# Altium footprint library Footprint_Though-Hole.PcbLib: 12 footprints
Each footprint in its own frame and in the unit in brackets; x right, y up, seen from the top. Pads: shape width x height; smd on the part's side, far side on the other; paste and mask are expansions set on the pad; w line width, h text height; cw(c..) or ccw(c..) is an arc to the next point about the centre after c.
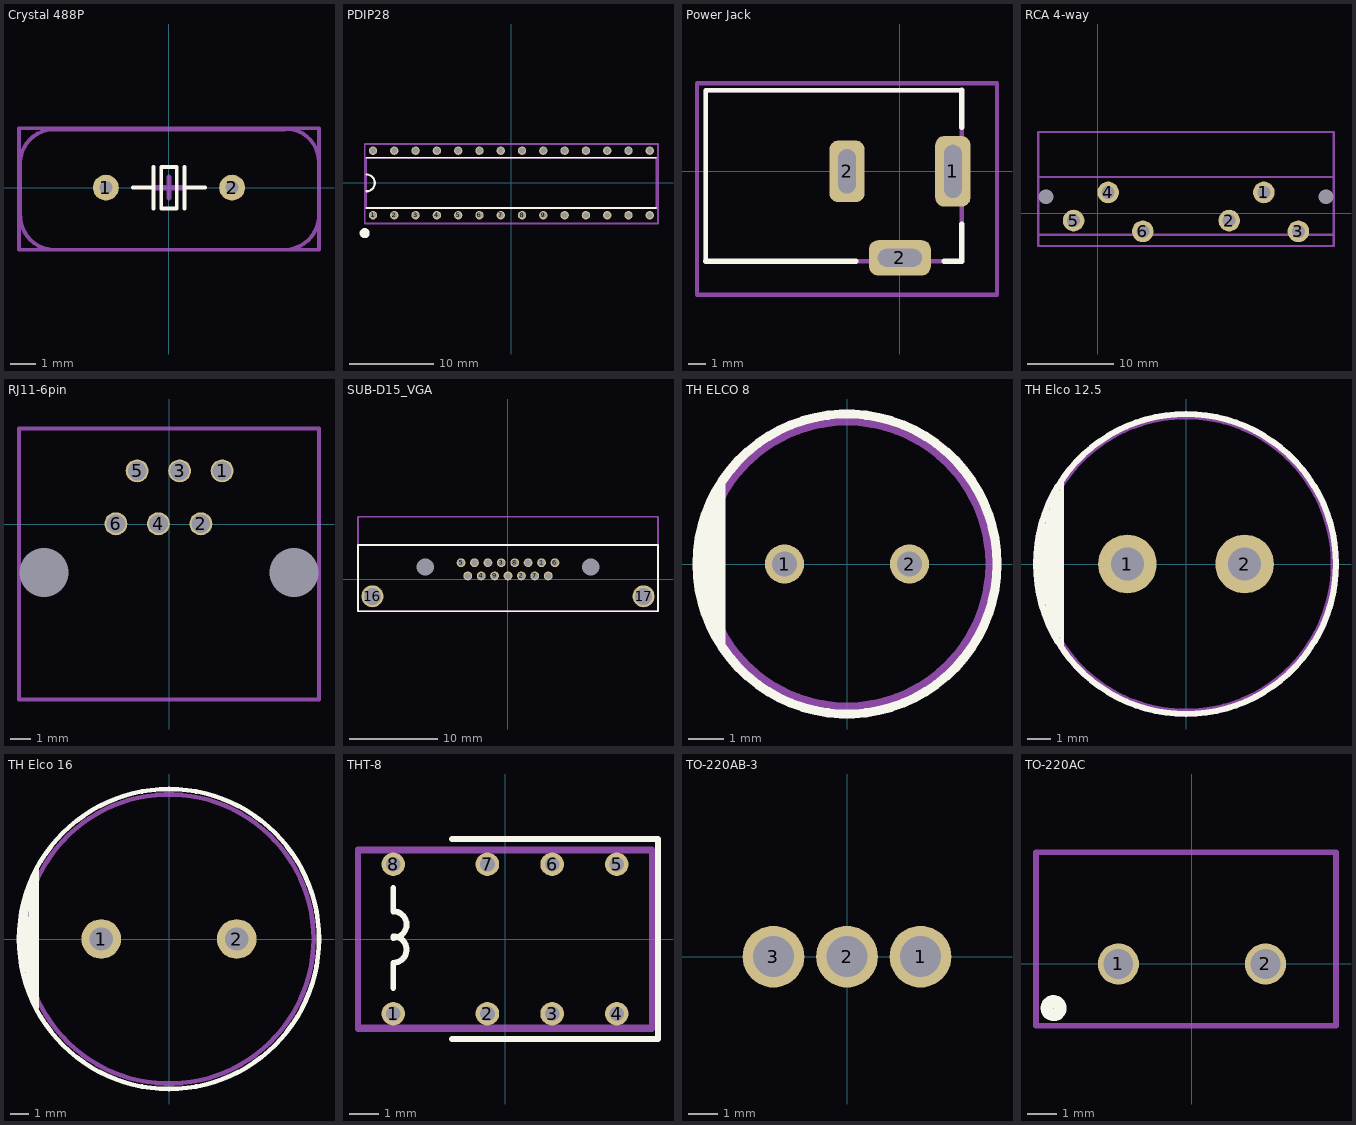
[diagram p0: the footprints below, top view; thin cyan lines are the x and y axes]

## Crystal 488P [mm] "Crystal Pitch 4.88mm - 4.65mm x 11.35mm x 3.6mm"
height 3.6
pads (2):
  round 1 hole 0.5: 1(-2.44,0) 2(2.44,0)
Top Overlay:
  lines w0.15: -1.4,0 -0.6,0 ; -0.6,-0.8 -0.6,0.8 ; 0.6,-0.8 0.6,0.8 ; 0.6,0 1.4,0 ; -0.3,-0.8 -0.3,0.8 0.3,0.8 0.3,-0.8 -0.3,-0.8
Mechanical 13:
  lines w0.15: 4.475,2.25 -4.55,2.25 ccw(c-4.45,0.95) -5.75,0.85 -5.75,-1 ccw(c-4.425,-1.075) -4.5,-2.4 4.5,-2.4 ccw(c4.45,-1.05) 5.8,-1 5.8,1 ccw(c4.513,0.988) 4.5,2.275
Mechanical 15:
  lines w0.15: -5.8,-2.4 -5.8,2.3 5.8,2.3 5.8,-2.4 -5.8,-2.4
  lines w0.2: -0.5,0 0.5,0 ; 0,-0.4 0,0.4
3D body "User Library-HC49_Crystal.step": height 3.1, standoff -13.2, extent -5.675,-2.325 5.675,2.325

## PDIP28 [mm] "Dual In-Line Plastic Package 28pin, Pitch 2.54mm"
pads (28):
  round 1 hole 0.7: 1(-16.51,-3.85) 2(-13.97,-3.85) 3(-11.43,-3.85) 4(-8.89,-3.85) 5(-6.35,-3.85) 6(-3.81,-3.85) 7(-1.27,-3.85) 8(1.27,-3.85) 9(3.81,-3.85) 10(6.35,-3.85) 11(8.89,-3.85) 12(11.43,-3.85) 13(13.97,-3.85) 14(16.51,-3.85) 15(16.51,3.85) 16(13.97,3.85) 17(11.43,3.85) 18(8.89,3.85) 19(6.35,3.85) 20(3.81,3.85) 21(1.27,3.85) 22(-1.27,3.85) 23(-3.81,3.85) 24(-6.35,3.85) 25(-8.89,3.85) 26(-11.43,3.85) 27(-13.97,3.85) 28(-16.51,3.85)
Top Overlay:
  circle w1: c-17.5,-6 r0.1
  lines w0.2: -17.3,-3 17.3,-3 ; -17.3,3 17.3,3
  lines w0.254: -17.3,-1 ccw(c-17.3,0) -17.3,1
Mechanical 13:
  lines w0.2: -17.3,-3 -17.3,3 17.3,3 17.3,-3 -17.3,-3
Mechanical 15:
  lines w0.2: -17.51,-4.85 -17.51,4.65 17.49,4.65 17.49,-4.85 -17.51,-4.85
3D body "User Library-PDIP28.step": height 4.24, standoff -2.89, extent -17.325,-4.88 17.325,4.88

## Power Jack [mm] "6mm Jack plug"
height 11
pads (3):
  rrect50% 2x4 hole 1 slot 3 at 90 deg: 1(3,0)
  rrect50% 2x3.5 hole 1 slot 2.5 at 90 deg: 2(-3,0)
  rrect50% 3.5x2 hole 1 slot 2.5 at 0 deg: 2(0,-4.9)
Top Overlay:
  lines w0.254: -11,-5.1 -11,4.6 3.5,4.6
  lines w0.3: -11,-5.1 -2.5,-5.1 ; 2.5,-5.1 3.5,-5.1 3.5,-3 ; 3.5,2.5 3.5,4.6
Mechanical 13:
  lines w0.254: -11,-5.1 3.5,-5.1 3.5,4.6 -11,4.6 -11,-5.1
Mechanical 15:
  lines w0.254: -11.5,-7 5.5,-7 5.5,5 -11.5,5 -11.5,-7
3D body "User Library-K375A -PCM DC Power Jack 2mm Pin.SLDPRT": height 11, standoff -5.1, extent -11.05,-5.15 3.45,4.65

## RCA 4-way [mm] "Vertical RCA connector with 4 connectors"
height 27.4
pads (8):
  round 2.5 hole 1.5: 1(19.2,2.4) 2(15.2,-0.85) 3(23.2,-2.1) 4(1.2,2.4) 5(-2.8,-0.85) 6(5.2,-2.1)
  rect 0x0 hole 1.7 square: ""(-6,1.9) ""(26.4,1.9)
Bottom Overlay:
  lines w0.254: -6.9,-2.5 -6.9,9.4 27.3,9.4 27.3,-2.5
  lines w0.3: -6.9,-2.5 -4.5,-2.5 ; 27.3,-2.5 25.3,-2.5 ; 25.3,-2.5 25.3,-2.5
Mechanical 13:
  lines w0.254: -6.9,-2.5 27.3,-2.5 27.3,9.4 18.4,9.4 -6.9,9.4 -6.9,-2.5
Mechanical 15:
  lines w0.254: -6.9,-3.8 27.3,-3.8 27.3,4.2 -6.9,4.2 -6.9,-3.8

## RJ11-6pin [mm] "6pin version"
pads (8):
  round 0 hole 2.36 unplated: 0(-6,-2.3) 0(6,-2.3)
  round 1.1 hole 0.9: 1(2.55,2.57) 2(1.53,0.03) 3(0.51,2.57) 4(-0.51,0.03) 5(-1.53,2.57) 6(-2.55,0.03)
Mechanical 13:
  lines w0.2: -7.2,-8.4 -7.2,4.6 7.2,4.6 7.2,-8.4 -7.2,-8.4
Mechanical 15:
  lines w0.2: -7.2,-8.4 -7.2,4.6 7.2,4.6 7.2,-8.4 -7.2,-8.4
3D body "User Library-RJ11-WE-HOR-TAB-UP.step": height 14.5, standoff -3.5, extent -7.2,-8.4 7.2,4.6

## SUB-D15_VGA [mm]
height 12.44
pads (19):
  round 0 hole 1.93: 0(-9.38,1.395) 0(9.38,1.395)
  round 1 hole 0.7: 1(3.8,1.905) 2(1.52,0.405) 3(-0.76,1.905) 4(-3.04,0.405) 5(-5.32,1.905) 6(5.32,1.905) 7(3.04,0.405) 8(0.76,1.905) 9(-1.52,0.405) 10(-3.8,1.905) 11(4.56,0.405) 12(2.28,1.905) 13(0,0.405) 14(-2.28,1.905) 15(-4.56,0.405)
  round 2.5 hole 1.93: 16(-15.365,-1.905) 17(15.365,-1.905)
Top Overlay:
  lines w0.2: -17,-3.595 17,-3.595 17,3.905 -6,3.905 -17,3.905 -17,-3.595
Mechanical 13:
  lines w0.2: -17,-3.595 17,-3.595 17,3.905 -17,3.905 -17,-3.595
Mechanical 15:
  lines w0.2: -17,-3.595 17,-3.595 17,7.105 -17,7.105 -17,-3.595

## TH ELCO 8 [mm]
pads (2):
  round 1.1 hole 0.7: 1(-1.75,0) 2(1.75,0)
Top Overlay:
  circle w0.254: c0,0 r4.2
  lines w0.2: -4.1,-1 -4.1,1 ; -4,-1.3 -4,1.3 ; -3.9,-1.6 -3.9,1.5 ; -3.7,-1.9 -3.7,1.9 ; -3.5,-2.3 -3.5,2.2
Mechanical 13:
  circle w0.254: c0,0 r4
Mechanical 15:
  circle w0.254: c0,0 r4
3D body: height 11.5, standoff 0, extent -4,-3.997 4,3.997

## TH Elco 12.5 [mm] "D=12.5mm"
pads (2):
  round 2.5 hole 1.4: 1(-2.5,0) 2(2.5,0)
Top Overlay:
  circle w0.254: c0,0 r6.4
  lines w0.2: -6.2,-1.2 -6.2,0.9 ; -6.1,-1.7 -6.1,1.7 ; -5.9,-2.4 -5.9,2.3 ; -5.7,-2.8 -5.7,2.8 ; -5.5,-3.1 -5.5,3.1 ; -5.3,-3.5 -5.3,3.5
Mechanical 13:
  circle w0.254: c0,0 r6.3
Mechanical 15:
  circle w0.254: c0,0 r6.401
3D body: height 25, standoff 0, extent -6.247,-6.25 6.247,6.25

## TH Elco 16 [mm] "D=16mm"
pads (2):
  round 2.2 hole 1.3: 1(-3.75,0) 2(3.75,0)
Top Overlay:
  circle w0.254: c0,0 r8.3
  lines w0.2: -8.15,-1.3 -8.15,0.8 ; -8.05,-1.8 -8.05,1.6 ; -7.9,2.5 -7.85,-2.5 ; -7.702,3 -7.65,-2.9 ; -7.5,-3.6 -7.5,3.5 ; -7.3,-3.8 -7.3,3.9
Mechanical 13:
  circle w0.254: c0,0 r8
Mechanical 15:
  circle w0.254: c0,0 r8
3D body: height 35.5, standoff 0, extent -7.996,-8 7.996,8

## THT-8 [mm]
pads (8):
  round 0.8 hole 0.5: 1(-3.8,-2.54) 2(-0.6,-2.54) 3(1.6,-2.54) 4(3.8,-2.54) 5(3.8,2.54) 6(1.6,2.54) 7(-0.6,2.54) 8(-3.8,2.54)
Top Overlay:
  lines w0.2: -3.8,-1.66 -3.8,-0.86 ; -3.8,-0.81 ccw(c-3.8,-0.36) -3.8,0.09 ; -3.8,0.04 ccw(c-3.8,0.49) -3.8,0.94 -3.8,1.74 ; -1.8,-3.4 5.2,-3.4 5.2,3.4 -1.8,3.4
Mechanical 13:
  lines w0.2: -5,-3 -5,3 5,3 5,-1.34 5,-3 -5,-3
Mechanical 15:
  lines w0.2: -5,-3.06 -5,3.04 5,3.04 5,-3.06 -5,-3.06
3D body: height 5.8, standoff 0.3, extent -5,-3 5,3

## TO-220AB-3 [mm] "Transistor Outline"
pads (3):
  round 2.1 hole 1.4: 1(2.5,0) 2(0,0) 3(-2.5,0)
Bottom Overlay:
  lines w0.254: -5.1,-1.5 -5.1,2.7 5.1,2.7 5.1,-1.5 -5.1,-1.5
3D body "User Library-Transistors TO-220AB.SLDPRT": height 18.87, standoff -14.02, extent -5.08,-1.495 5.08,2.7

## TO-220AC [mm]
pads (2):
  round 1.4 hole 1.01: 1(-2.5,0) 2(2.5,0)
Top Overlay:
  circle w0.254: c-4.7,-1.5 r0.316
  circle w0.254: c-4.7,-1.5 r0.141
Mechanical 13:
  lines w0.2: -5.3,-2.1 -5.3,3.8 4.9,3.8 4.9,-2.1 -5.3,-2.1
Mechanical 15:
  lines w0.2: -5.3,-2.1 4.9,-2.1 4.9,3.8 -5.3,3.8 -5.3,-2.1
3D body "User Library-TO-220AC_BENT.step": height 19.24, standoff -2.1, extent -5.28,-2.1 4.88,3.752